# Altium schematic symbol library Schlib1.SchLib: 25 symbols
Pins are listed as number, name and electrical type; pins without a type are passive.

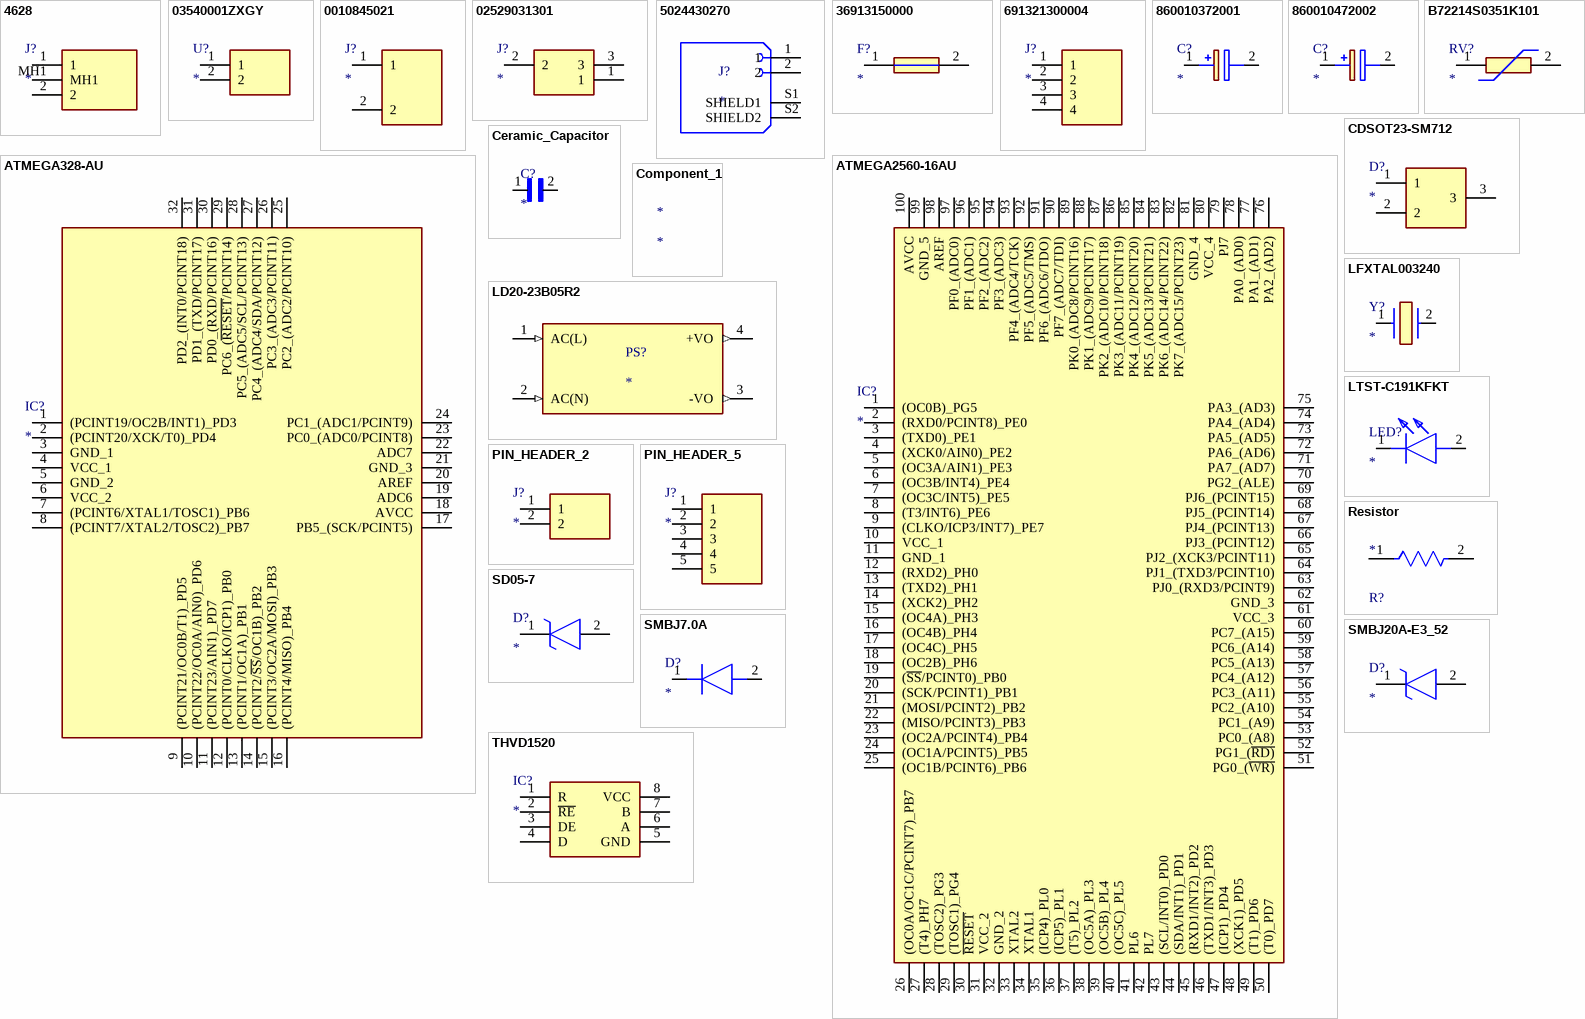
[diagram p0: symbols 4628 to THVD1520]

## 4628
designator J?
Connector; Manufacturer_Name: Keystone Electronics; Manufacturer_Part_Number: 4628; Datasheet Link: http://www.farnell.com/cad/1718289.pdf; Height: 12.24mm; Mouser Part Number: 534-4628; Mouser Price/Stock: https://www.mouser.co.uk/ProductDetail/Keystone-Electronics/4628?qs=zfzUrXoPZmjT%252BZ7zWJhosA%3D%3D; Arrow Part Number: 4628; Arrow Price/Stock: https://www.arrow.com/en/products/4628/keystone-electronics?region=europe
footprint 4628
pins: 1, 2, MH1

## 03540001ZXGY
designator U?
Undefined or Miscellaneous; Manufacturer_Name: LITTELFUSE; Manufacturer_Part_Number: 03540001ZXGY; Datasheet Link: https://m.littelfuse.com/~/media/electronics/datasheets/fuse_blocks/littelfuse_fuse_block_354_datasheet.pdf.pdf; Height: 13mm; Mouser Part Number: 576-03540001ZXGY; Mouser Price/Stock: https://www.mouser.co.uk/ProductDetail/Littelfuse/03540001ZXGY?qs=2VFNtWizgieffhgauIF6XA%3D%3D; Arrow Part Number: 03540001ZXGY; Arrow Price/Stock: https://www.arrow.com/en/products/03540001zxgy/littelfuse?region=nac
footprint 03540101ZXGY
pins: 1, 2

## 0010845021
designator J?
Connector; Manufacturer: MOLEX; Manufacturer Part number: 0010845021
footprint 0010845021_MOLEX
pins: 1, 2

## 02529031301
designator J?
Connector; Manufacturer_Name: HARTING; Manufacturer_Part_Number: 02529031301; Description: har modular H3 module female straight; Datasheet Link: https://b2b.harting.com/files/download/PRD/PDF_DS/PDF_DS_02529031301_EN.pdf; Height: 11.6mm; Mouser Part Number: 617-02529031301; Mouser Price/Stock: https://www.mouser.co.uk/ProductDetail/HARTING/02529031301?qs=pUKx8fyJudBResgWdfe%2F7g%3D%3D
footprint 02529031301
pins: 1, 2, 3

## 5024430270
designator J?
2.00mm Pitch CLIK-Mate Wire-to-Board PCB Receptacle, Single Row, Vertical, with Cover Tape, 2 Circuits; MP: 5024430270; Package: None; Value: *; Availability: Unavailable; Price: None
footprint MOLEX_5024430270
pins: 1, 2, S1 SHIELD1, S2 SHIELD2

## 36913150000
designator F?
Fuse; Manufacturer_Name: LITTELFUSE; Manufacturer_Part_Number: 36913150000; Datasheet Link: https://componentsearchengine.com/Datasheets/1/36913150000.pdf; Height: 8mm; Mouser Part Number: 576-36913150000; Mouser Price/Stock: https://www.mouser.co.uk/ProductDetail/Littelfuse/36913150000?qs=A0AD9A9uYPZCz%252Bhb2n2Ctg%3D%3D; Arrow Part Number: 36913150000; Arrow Price/Stock: https://www.arrow.com/en/products/36913150000/littelfuse?region=nac
footprint 36913150000
pins: 1, 2

## 691321300004
designator J?
Connector; Manufacturer_Name: Wurth Elektronik; Manufacturer_Part_Number: 691321300004; Datasheet Link: http://katalog.we-online.de/em/datasheet/6913213000xx.pdf; Height: 9.2mm; Mouser Part Number: 710-691321300004; Mouser Price/Stock: https://www.mouser.co.uk/ProductDetail/Wurth-Elektronik/691321300004?qs=2kOmHSv6VfS%252BzUmRw3eoyg%3D%3D
footprint SHDR4W80P0X381_1X4_1643X720X920P
pins: 1, 2, 3, 4

## 860010372001
designator C?
Capacitor Polarised; Manufacturer_Name: Wurth Elektronik; Manufacturer_Part_Number: 860010372001; Datasheet Link: https://ms.componentsearchengine.com/Datasheets/2/860010372001.pdf; Height: 12.5mm; Mouser Part Number: 710-860010372001; Mouser Price/Stock: https://www.mouser.co.uk/ProductDetail/Wurth-Elektronik/860010372001?qs=0KOYDY2FL29NKHIi2kspeA%3D%3D
footprint CAPPRD200W52D500H1250
pins: 1 +, 2 -

## 860010472002
designator C?
Capacitor Polarised; Manufacturer_Name: Wurth Elektronik; Manufacturer_Part_Number: 860010472002; Datasheet Link: https://www.we-online.com/catalog/datasheet/860010472002.pdf; Height: 12.5mm; Mouser Part Number: 710-860010472002; Mouser Price/Stock: https://www.mouser.co.uk/ProductDetail/Wurth-Elektronik/860010472002?qs=0KOYDY2FL2%2FyXlauDHcLjg%3D%3D
footprint CAPPRD200W52D500H1250
pins: 1 +, 2 -

## ATMEGA328-AU
designator IC?
Integrated Circuit; Manufacturer_Name: Microchip; Manufacturer_Part_Number: ATMEGA328-AU; Datasheet Link: https://ww1.microchip.com/downloads/en/DeviceDoc/ATmega48A-PA-88A-PA-168A-PA-328-P-DS-DS40002061B.pdf; Height: 1.2mm; Mouser Part Number: 556-ATMEGA328-AU; Mouser Price/Stock: https://www.mouser.co.uk/ProductDetail/Microchip-Technology/ATMEGA328-AU?qs=lwdSMh1%2FoYJRHuGBjWz9Pg%3D%3D; Arrow Part Number: ATMEGA328-AU; Arrow Price/Stock: https://www.arrow.com/en/products/atmega328-au/microchip-technology?region=europe
footprint QFP80P900X900X120-32N
pins: 1 (PCINT19/OC2B/INT1)_PD3, 2 (PCINT20/XCK/T0)_PD4, 3 GND_1, 4 VCC_1, 5 GND_2, 6 VCC_2, 7 (PCINT6/XTAL1/TOSC1)_PB6, 8 (PCINT7/XTAL2/TOSC2)_PB7, 9 (PCINT21/OC0B/T1)_PD5, 10 (PCINT22/OC0A/AIN0)_PD6, 11 (PCINT23/AIN1)_PD7, 12 (PCINT0/CLKO/ICP1)_PB0, 13 (PCINT1/OC1A)_PB1, 14 (PCINT2/~{SS}/OC1B)_PB2, 15 (PCINT3/OC2A/MOSI)_PB3, 16 (PCINT4/MISO)_PB4, 17 PB5_(SCK/PCINT5), 18 AVCC, 19 ADC6, 20 AREF, 21 GND_3, 22 ADC7, 23 PC0_(ADC0/PCINT8), 24 PC1_(ADC1/PCINT9), 25 PC2_(ADC2/PCINT10), 26 PC3_(ADC3/PCINT11), 27 PC4_(ADC4/SDA/PCINT12), 28 PC5_(ADC5/SCL/PCINT13), 29 PC6_(~{RESET}/PCINT14), 30 PD0_(RXD/PCINT16), 31 PD1_(TXD/PCINT17), 32 PD2_(INT0/PCINT18)

## ATMEGA2560-16AU
designator IC?
Integrated Circuit; Manufacturer_Name: Microchip; Manufacturer_Part_Number: ATMEGA2560-16AU; Datasheet Link: https://datasheet.datasheetarchive.com/originals/distributors/Datasheets_SAMA/4a5a397fa76c39b5297f4121ace1d84e.pdf; Height: 1.2mm; Mouser Part Number: 556-ATMEGA2560-16AU; Mouser Price/Stock: https://www.mouser.co.uk/ProductDetail/Microchip-Technology/ATMEGA2560-16AU?qs=aqrrBurbvGciYmlAokFS0w%3D%3D; Arrow Part Number: ATMEGA2560-16AU; Arrow Price/Stock: https://www.arrow.com/en/products/atmega2560-16au/microchip-technology?region=nac
footprint QFP50P1600X1600X120-100N
pins: 1 (OC0B)_PG5, 2 (RXD0/PCINT8)_PE0, 3 (TXD0)_PE1, 4 (XCK0/AIN0)_PE2, 5 (OC3A/AIN1)_PE3, 6 (OC3B/INT4)_PE4, 7 (OC3C/INT5)_PE5, 8 (T3/INT6)_PE6, 9 (CLKO/ICP3/INT7)_PE7, 10 VCC_1, 11 GND_1, 12 (RXD2)_PH0, 13 (TXD2)_PH1, 14 (XCK2)_PH2, 15 (OC4A)_PH3, 16 (OC4B)_PH4, 17 (OC4C)_PH5, 18 (OC2B)_PH6, 19 (~{SS}/PCINT0)_PB0, 20 (SCK/PCINT1)_PB1, 21 (MOSI/PCINT2)_PB2, 22 (MISO/PCINT3)_PB3, 23 (OC2A/PCINT4)_PB4, 24 (OC1A/PCINT5)_PB5, 25 (OC1B/PCINT6)_PB6, 26 (OC0A/OC1C/PCINT7)_PB7, 27 (T4)_PH7, 28 (TOSC2)_PG3, 29 (TOSC1)_PG4, 30 ~{RESET}, 31 VCC_2, 32 GND_2, 33 XTAL2, 34 XTAL1, 35 (ICP4)_PL0, 36 (ICP5)_PL1, 37 (T5)_PL2, 38 (OC5A)_PL3, 39 (OC5B)_PL4, 40 (OC5C)_PL5, 41 PL6, 42 PL7, 43 (SCL/INT0)_PD0, 44 (SDA/INT1)_PD1, 45 (RXD1/INT2)_PD2, 46 (TXD1/INT3)_PD3, 47 (ICP1)_PD4, 48 (XCK1)_PD5, 49 (T1)_PD6, 50 (T0)_PD7, 51 PG0_(~{WR)}, 52 PG1_(~{RD)}, 53 PC0_(A8), 54 PC1_(A9), 55 PC2_(A10), 56 PC3_(A11), 57 PC4_(A12), 58 PC5_(A13), 59 PC6_(A14), 60 PC7_(A15), 61 VCC_3, 62 GND_3, 63 PJ0_(RXD3/PCINT9), 64 PJ1_(TXD3/PCINT10), 65 PJ2_(XCK3/PCINT11), 66 PJ3_(PCINT12), 67 PJ4_(PCINT13), 68 PJ5_(PCINT14), 69 PJ6_(PCINT15), 70 PG2_(ALE), 71 PA7_(AD7), 72 PA6_(AD6), 73 PA5_(AD5), 74 PA4_(AD4), 75 PA3_(AD3), 76 PA2_(AD2), 77 PA1_(AD1), 78 PA0_(AD0), 79 PJ7, 80 VCC_4, 81 GND_4, 82 PK7_(ADC15/PCINT23), 83 PK6_(ADC14/PCINT22), 84 PK5_(ADC13/PCINT21), 85 PK4_(ADC12/PCINT20), 86 PK3_(ADC11/PCINT19), 87 PK2_(ADC10/PCINT18), 88 PK1_(ADC9/PCINT17), 89 PK0_(ADC8/PCINT16), 90 PF7_(ADC7/TDI), 91 PF6_(ADC6/TDO), 92 PF5_(ADC5/TMS), 93 PF4_(ADC4/TCK), 94 PF3_(ADC3), 95 PF2_(ADC2), 96 PF1_(ADC1), 97 PF0_(ADC0), 98 AREF, 99 GND_5, 100 AVCC

## B72214S0351K101
designator RV?
Varistor; Manufacturer_Name: TDK; Manufacturer_Part_Number: B72214S0351K101; Datasheet Link: https://product.tdk.com/system/files/dam/doc/product/protection/voltage/lead-disk-varistor/data_sheet/70/db/var/siov_leaded_standard.pdf; Height: 18.5mm; Arrow Part Number: B72214S0351K101; Arrow Price/Stock: https://www.arrow.com/en/products/b72214s0351k101/epcos-tdk?region=nac
footprint B72214S0351K101
pins: 1, 2

## CDSOT23-SM712
designator D?
Diode; Manufacturer_Name: Bourns; Manufacturer_Part_Number: CDSOT23-SM712; Datasheet Link: http://uk.rs-online.com/web/p/products/7673728; Height: 1.17mm; Mouser Part Number: 652-CDSOT23-SM712; Mouser Price/Stock: https://www.mouser.co.uk/ProductDetail/Bourns/CDSOT23-SM712?qs=FuI%252BOVLl4%2FLTY%2FGQ265RLA%3D%3D; Arrow Part Number: CDSOT23-SM712; Arrow Price/Stock: https://www.arrow.com/en/products/cdsot23-sm712/bourns?region=europe
footprint SOT95P230X117-3N
pins: 1, 2, 3

## Ceramic_Capacitor
designator C?
Cap Ceramic XF XV; Manufacturer Part number: 04025C103KAT2A; Value: *
footprint 0603C
pins: 1, 2

## Component_1
designator *

## LD20-23B05R2
designator PS?
Enclosed AC DC Converters 1 Uitgang 5V - - - 4A 85 ~ 305 VAC, 100 ~ 430 VDC Input; MF: Mornsun America, LLC; MP: LD20-23B05R2; Digi-Key_Part_Number: 2725-LD20-23B05R2-ND; SnapEDA_Link: https://www.snapeda.com/parts/LD20-23B05R2/MORNSUN/view-part/?ref=snap; Purchase-URL: https://pricing.snapeda.com/search/part/LD20-23B05R2/?ref=eda; Package: CUSTOM-4 MORNSUN; Check_prices: https://www.snapeda.com/parts/LD20-23B05R2/MORNSUN/view-part/?ref=eda; Value: *
footprint CONV_LD20-23B05R2
pins: 1 AC(L) (in), 2 AC(N) (in), 3 -VO (out), 4 +VO (out)

## LFXTAL003240
designator Y?
Crystal or Oscillator; Manufacturer_Name: IQD; Manufacturer_Part_Number: LFXTAL003240
footprint IQD-HC-49-4H
pins: 1, 2

## LTST-C191KFKT
designator LED?
LED; Manufacturer_Name: Lite-On; Manufacturer_Part_Number: LTST-C191KFKT; Datasheet Link: https://datasheet.datasheetarchive.com/originals/distributors/Datasheets-305/79307.pdf; Height: 0.55mm; Mouser Part Number: 859-LTST-C191KFKT; Mouser Price/Stock: https://www.mouser.co.uk/ProductDetail/Lite-On/LTST-C191KFKT?qs=1bx9pL%2Fk%252BiAv01YAc0eitQ%3D%3D; Arrow Part Number: LTST-C191KFKT; Arrow Price/Stock: https://www.arrow.com/en/products/ltst-c191kfkt/lite-on-technology?region=nac
footprint LEDC1608X55N
pins: 1 K, 2 A

## PIN_HEADER_2
designator J?
Connector; Description: Molex; Datasheet Link: https://www.molex.com/pdm_docs/sd/901200128_sd.pdf; Height: 9.45mm; Manufacturer_Name: Molex; Manufacturer_Part_Number: MOLEX
footprint PINHEADER2
pins: 1, 2

## PIN_HEADER_5
designator J?
Connector; Description: Molex; Datasheet Link: https://www.molex.com/pdm_docs/sd/901200128_sd.pdf; Height: 9.45mm; Manufacturer_Name: Molex; Manufacturer_Part_Number: MOLEX
footprint HDRV8W65P0X254_1X8_2010X249X945P
pins: 1, 2, 3, 4, 5

## Resistor
designator R?
Manufacturer: *; Manufacturer Part number: *; Value: *
footprint 0603R
pins: 1, 2

## SD05-7
designator D?
TVS Diode (Uni-directional); Manufacturer_Name: Diodes Inc.; Manufacturer_Part_Number: SD05-7; Datasheet Link: http://uk.rs-online.com/web/p/products/7514922P; Height: 1.2mm; Mouser Part Number: 621-SD05-7; Mouser Price/Stock: https://www.mouser.co.uk/ProductDetail/Diodes-Incorporated/SD05-7?qs=nSryOFbzj8LxrCClYHHrlA%3D%3D; Arrow Part Number: SD05-7; Arrow Price/Stock: https://www.arrow.com/en/products/sd05-7/diodes-incorporated
footprint SOD2513X120N
pins: 1 K, 2 A

## SMBJ7.0A
designator D?
Diode; Manufacturer_Name: HY Electronic; Manufacturer_Part_Number: SMBJ7.0A; Height: 2.44mm
footprint DIOM5336X244N
pins: 1 K, 2 A

## SMBJ20A-E3_52
designator D?
TVS Diode (Uni-directional); Manufacturer_Name: Vishay; Manufacturer_Part_Number: SMBJ20A-E3/52; Datasheet Link: http://www.vishay.com/docs/88392/smbj.pdf; Height: 2.44mm; Mouser Part Number: 625-SMBJ20A-E3; Mouser Price/Stock: https://www.mouser.co.uk/ProductDetail/Vishay-General-Semiconductor/SMBJ20A-E3-52?qs=%252BKsK5HlK7GGHijeGSDEfxQ%3D%3D; Arrow Part Number: SMBJ20A-E3/52; Arrow Price/Stock: https://www.arrow.com/en/products/smbj20a-e352/vishay?region=nac
footprint DIOM5436X244N
pins: 1 K, 2 A

## THVD1520
designator IC?
Integrated Circuit; Manufacturer_Name: Texas Instruments; Manufacturer_Part_Number: THVD1520; Datasheet Link: https://www.ti.com/lit/ds/symlink/thvd1520.pdf?ts=1621063667522&ref_url=https%253A%252F%252Fwww.google.com%252F; Height: 1.75mm; Arrow Part Number: THVD1520; Arrow Price/Stock: https://www.arrow.com/en/products/thvd1520/texas-instruments
footprint SOIC127P600X175-8N
pins: 1 R, 2 ~{RE}, 3 DE, 4 D, 5 GND, 6 A, 7 B, 8 VCC